# EAGLE library part 9-WAY (library pimoroni-headers)
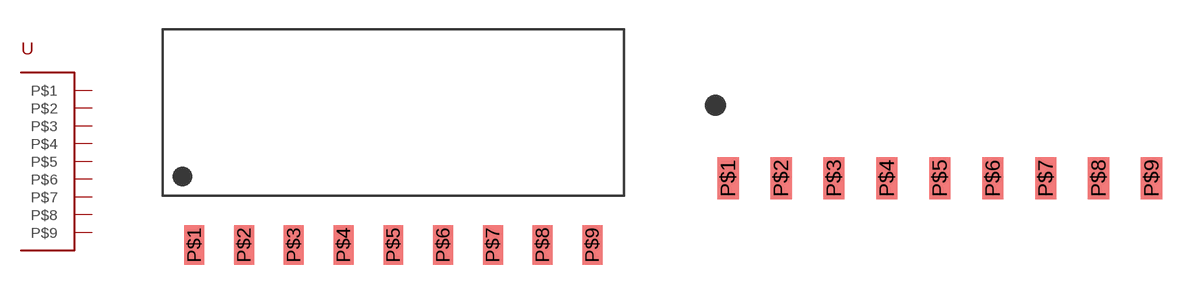
[diagram p7: symbol with the pads of 1X9-SMT-RIGHT-ANGLE; footprints 1X9-SMT-RIGHT-ANGLE, 1X9-SMT-RIGHT-ANGLE-MALE]

Designator prefix -

## 9-WAYFEMALE  [1X9-SMT-RIGHT-ANGLE]
P$1  P$1
P$2  P$2
P$3  P$3
P$4  P$4
P$5  P$5
P$6  P$6
P$7  P$7
P$8  P$8
P$9  P$9

## 9-WAYMALE  [1X9-SMT-RIGHT-ANGLE-MALE]
Pads as for 1X9-SMT-RIGHT-ANGLE

## 9-WAYPTH-MALE  [1X9-PTH-RIGHT-ANGLE-MALE]
1  P$1
2  P$2
3  P$3
4  P$4
5  P$5
6  P$6
7  P$7
8  P$8
9  P$9

## 9-WAYSMT-F  [1X9_FEMALE_SMT_RIGHT_ANGLE]
A1  P$1
A2  P$2
A3  P$3
A4  P$4
A5  P$5
A6  P$6
A7  P$7
A8  P$8
A9  P$9
B1  P$1
B2  P$2
B3  P$3
B4  P$4
B5  P$5
B6  P$6
B7  P$7
B8  P$8
B9  P$9

## Footprint 1X9-SMT-RIGHT-ANGLE (pad centres in mm)
smd 1.02 x 2: P$1 -10.16,-3.81; P$2 -7.62,-3.81; P$3 -5.08,-3.81; P$4 -2.54,-3.81; P$5 0,-3.81; P$6 2.54,-3.81; P$7 5.08,-3.81; P$8 7.62,-3.81; P$9 10.16,-3.81

## Footprint 1X9-SMT-RIGHT-ANGLE-MALE (pad centres in mm)
smd 1.02 x 2: P$1 -10.16,-3.81; P$2 -7.62,-3.81; P$3 -5.08,-3.81; P$4 -2.54,-3.81; P$5 0,-3.81; P$6 2.54,-3.81; P$7 5.08,-3.81; P$8 7.62,-3.81; P$9 10.16,-3.81

## Footprint 1X9-PTH-RIGHT-ANGLE-MALE (pad centres in mm)
drill 1.016 long: 1 -10.16,-4.953; 2 -7.62,-5.207; 3 -5.08,-4.953; 4 -2.54,-5.207; 5 0,-4.953; 6 2.54,-5.207; 7 5.08,-4.953; 8 7.62,-5.207; 9 10.16,-4.953

## Footprint 1X9_FEMALE_SMT_RIGHT_ANGLE (pad centres in mm)
smd 1 x 2.4: A1 -10.16,4.8; A2 -7.62,4.8; A3 -5.08,4.8; A4 -2.54,4.8; A5 0,4.8; A6 2.54,4.8; A7 5.08,4.8; A8 7.62,4.8; A9 10.16,4.8; B1 -10.16,-4.8; B2 -7.62,-4.8; B3 -5.08,-4.8; B4 -2.54,-4.8; B5 0,-4.8; B6 2.54,-4.8; B7 5.08,-4.8; B8 7.62,-4.8; B9 10.16,-4.8